# EAGLE library part PINHD-2X27 (library pinhead-fixdrills)
PIN HEADER
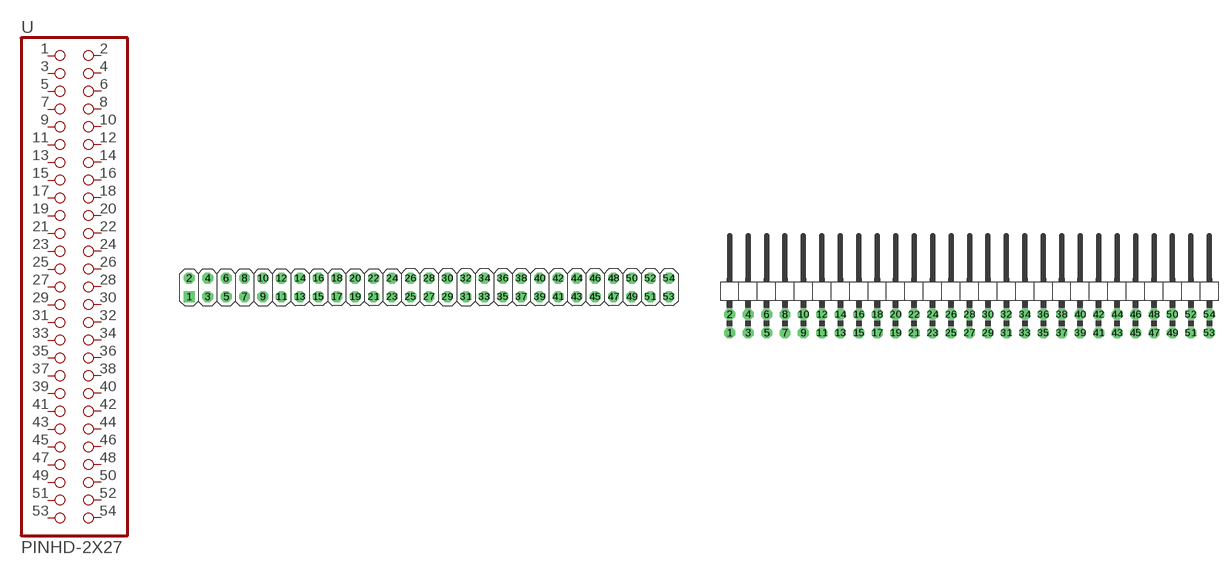
[diagram p50: symbol with the pads of 2X27; footprints 2X27, 2X27/90]

Designator prefix -

## PINHD-2X27_2.54  [2X27]
1  1  pas
2  2  pas
3  3  pas
4  4  pas
5  5  pas
6  6  pas
7  7  pas
8  8  pas
9  9  pas
10  10  pas
11  11  pas
12  12  pas
13  13  pas
14  14  pas
15  15  pas
16  16  pas
17  17  pas
18  18  pas
19  19  pas
20  20  pas
21  21  pas
22  22  pas
23  23  pas
24  24  pas
25  25  pas
26  26  pas
27  27  pas
28  28  pas
29  29  pas
30  30  pas
31  31  pas
32  32  pas
33  33  pas
34  34  pas
35  35  pas
36  36  pas
37  37  pas
38  38  pas
39  39  pas
40  40  pas
41  41  pas
42  42  pas
43  43  pas
44  44  pas
45  45  pas
46  46  pas
47  47  pas
48  48  pas
49  49  pas
50  50  pas
51  51  pas
52  52  pas
53  53  pas
54  54  pas

## PINHD-2X27_2.54-90°  [2X27/90]
Pads as for 2X27

## PINHD-2X27_2.00  [2X27M]
Pads as for 2X27

## PINHD-2X27_2.54-SMD  [2X27SMD]
Pads as for 2X27

## PINHD-2X27_2.54-SMD-90°  [2X27SMD/90]
Pads as for 2X27

## Footprint 2X27 (pad centres in mm)
PIN HEADER - 2.54
drill 1 square: 1 -30.48,-1.27
drill 1 octagon: 2 -30.48,1.27; 3 -27.94,-1.27; 4 -27.94,1.27; 5 -25.4,-1.27; 6 -25.4,1.27; 7 -22.86,-1.27; 8 -22.86,1.27; 9 -20.32,-1.27; 10 -20.32,1.27; 11 -17.78,-1.27; 12 -17.78,1.27; 13 -15.24,-1.27; 14 -15.24,1.27; 15 -12.7,-1.27; 16 -12.7,1.27; 17 -10.16,-1.27; 18 -10.16,1.27; 19 -7.62,-1.27; 20 -7.62,1.27; 21 -5.08,-1.27; 22 -5.08,1.27; 23 -2.54,-1.27; 24 -2.54,1.27; 25 0,-1.27; 26 0,1.27; 27 2.54,-1.27; 28 2.54,1.27; 29 5.08,-1.27; 30 5.08,1.27; 31 7.62,-1.27; 32 7.62,1.27; 33 10.16,-1.27; 34 10.16,1.27; 35 12.7,-1.27; 36 12.7,1.27; 37 15.24,-1.27; 38 15.24,1.27; 39 17.78,-1.27; 40 17.78,1.27; 41 20.32,-1.27; 42 20.32,1.27; 43 22.86,-1.27; 44 22.86,1.27; 45 25.4,-1.27; 46 25.4,1.27; 47 27.94,-1.27; 48 27.94,1.27; 49 30.48,-1.27; 50 30.48,1.27; 51 33.02,-1.27; 52 33.02,1.27; 53 35.56,-1.27; 54 35.56,1.27

## Footprint 2X27/90 (pad centres in mm)
PIN HEADER - 2.54 90°
drill 1 octagon: 1 -24.13,-6.35; 2 -24.13,-3.81; 3 -21.59,-6.35; 4 -21.59,-3.81; 5 -19.05,-6.35; 6 -19.05,-3.81; 7 -16.51,-6.35; 8 -16.51,-3.81; 9 -13.97,-6.35; 10 -13.97,-3.81; 11 -11.43,-6.35; 12 -11.43,-3.81; 13 -8.89,-6.35; 14 -8.89,-3.81; 15 -6.35,-6.35; 16 -6.35,-3.81; 17 -3.81,-6.35; 18 -3.81,-3.81; 19 -1.27,-6.35; 20 -1.27,-3.81; 21 1.27,-6.35; 22 1.27,-3.81; 23 3.81,-6.35; 24 3.81,-3.81; 25 6.35,-6.35; 26 6.35,-3.81; 27 8.89,-6.35; 28 8.89,-3.81; 29 11.43,-6.35; 30 11.43,-3.81; 31 13.97,-6.35; 32 13.97,-3.81; 33 16.51,-6.35; 34 16.51,-3.81; 35 19.05,-6.35; 36 19.05,-3.81; 37 21.59,-6.35; 38 21.59,-3.81; 39 24.13,-6.35; 40 24.13,-3.81; 41 26.67,-6.35; 42 26.67,-3.81; 43 29.21,-6.35; 44 29.21,-3.81; 45 31.75,-6.35; 46 31.75,-3.81; 47 34.29,-6.35; 48 34.29,-3.81; 49 36.83,-6.35; 50 36.83,-3.81; 51 39.37,-6.35; 52 39.37,-3.81; 53 41.91,-6.35; 54 41.91,-3.81

## Footprint 2X27M (pad centres in mm)
PIN HEADER - 2
drill 0.9 square: 1 -24,-1
drill 0.9: 2 -24,1; 3 -22,-1; 4 -22,1; 5 -20,-1; 6 -20,1; 7 -18,-1; 8 -18,1; 9 -16,-1; 10 -16,1; 11 -14,-1; 12 -14,1; 13 -12,-1; 14 -12,1; 15 -10,-1; 16 -10,1; 17 -8,-1; 18 -8,1; 19 -6,-1; 20 -6,1; 21 -4,-1; 22 -4,1; 23 -2,-1; 24 -2,1; 25 0,-1; 26 0,1; 27 2,-1; 28 2,1; 29 4,-1; 30 4,1; 31 6,-1; 32 6,1; 33 8,-1; 34 8,1; 35 10,-1; 36 10,1; 37 12,-1; 38 12,1; 39 14,-1; 40 14,1; 41 16,-1; 42 16,1; 43 18,-1; 44 18,1; 45 20,-1; 46 20,1; 47 22,-1; 48 22,1; 49 24,-1; 50 24,1; 51 26,-1; 52 26,1; 53 28,-1; 54 28,1

## Footprint 2X27SMD (pad centres in mm)
PIN HEADER - 2.54 SMD
smd 1.016 x 3.302: 1 -1.27,-3.81; 2 -1.27,1.27; 3 1.27,-3.81; 4 1.27,1.27; 5 3.81,-3.81; 6 3.81,1.27; 7 6.35,-3.81; 8 6.35,1.27; 9 8.89,-3.81; 10 8.89,1.27; 11 11.43,-3.81; 12 11.43,1.27; 13 13.97,-3.81; 14 13.97,1.27; 15 16.51,-3.81; 16 16.51,1.27; 17 19.05,-3.81; 18 19.05,1.27; 19 21.59,-3.81; 20 21.59,1.27; 21 24.13,-3.81; 22 24.13,1.27; 23 26.67,-3.81; 24 26.67,1.27; 25 29.21,-3.81; 26 29.21,1.27; 27 31.75,-3.81; 28 31.75,1.27; 29 34.29,-3.81; 30 34.29,1.27; 31 36.83,-3.81; 32 36.83,1.27; 33 39.37,-3.81; 34 39.37,1.27; 35 41.91,-3.81; 36 41.91,1.27; 37 44.45,-3.81; 38 44.45,1.27; 39 46.99,-3.81; 40 46.99,1.27; 41 49.53,-3.81; 42 49.53,1.27; 43 52.07,-3.81; 44 52.07,1.27; 45 54.61,-3.81; 46 54.61,1.27; 47 57.15,-3.81; 48 57.15,1.27; 49 59.69,-3.81; 50 59.69,1.27; 51 62.23,-3.81; 52 62.23,1.27; 53 64.77,-3.81; 54 64.77,1.27

## Footprint 2X27SMD/90 (pad centres in mm)
PIN HEADER - 2.54 90°
smd 1.016 x 1.778: 1 -1.27,-8.89; 2 -1.27,-5.08; 3 1.27,-8.89; 4 1.27,-5.08; 5 3.81,-8.89; 6 3.81,-5.08; 7 6.35,-8.89; 8 6.35,-5.08; 9 8.89,-8.89; 10 8.89,-5.08; 11 11.43,-8.89; 12 11.43,-5.08; 13 13.97,-8.89; 14 13.97,-5.08; 15 16.51,-8.89; 16 16.51,-5.08; 17 19.05,-8.89; 18 19.05,-5.08; 19 21.59,-8.89; 20 21.59,-5.08; 21 24.13,-8.89; 22 24.13,-5.08; 23 26.67,-8.89; 24 26.67,-5.08; 25 29.21,-8.89; 26 29.21,-5.08; 27 31.75,-8.89; 28 31.75,-5.08; 29 34.29,-8.89; 30 34.29,-5.08; 31 36.83,-8.89; 32 36.83,-5.08; 33 39.37,-8.89; 34 39.37,-5.08; 35 41.91,-8.89; 36 41.91,-5.08; 37 44.45,-8.89; 38 44.45,-5.08; 39 46.99,-8.89; 40 46.99,-5.08; 41 49.53,-8.89; 42 49.53,-5.08; 43 52.07,-8.89; 44 52.07,-5.08; 45 54.61,-8.89; 46 54.61,-5.08; 47 57.15,-8.89; 48 57.15,-5.08; 49 59.69,-8.89; 50 59.69,-5.08; 51 62.23,-8.89; 52 62.23,-5.08; 53 64.77,-8.89; 54 64.77,-5.08